# Altium footprint library 33HDR.PcbLib: 1 footprints
Each footprint in its own frame and in the unit in brackets; x right, y up, seen from the top. Pads: shape width x height; smd on the part's side, far side on the other; paste and mask are expansions set on the pad; w line width, h text height; cw(c..) or ccw(c..) is an arc to the next point about the centre after c.
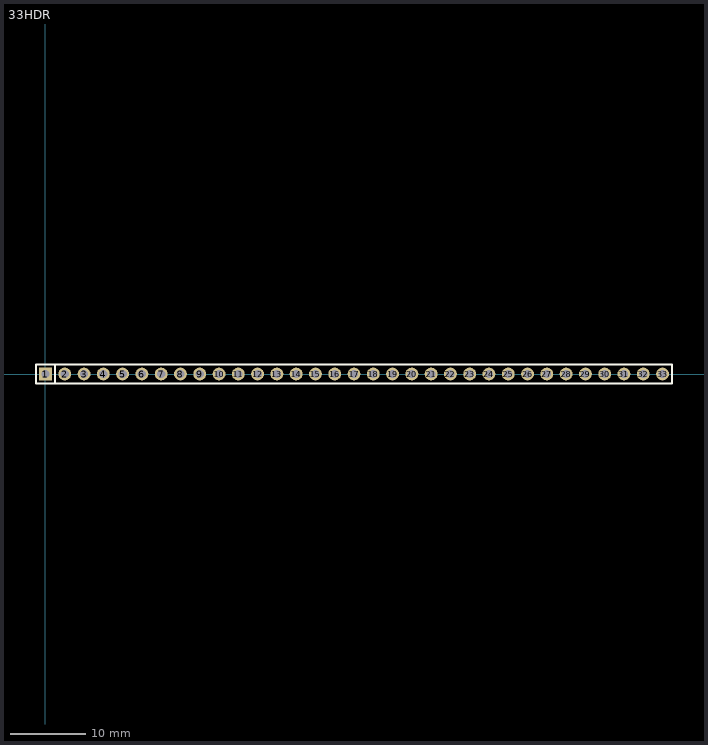
[diagram p0: the footprint, top view; thin cyan lines are the x and y axes]

## 33HDR [mm]
height 9
pads (33):
  rect 1.7x1.7 hole 1.1: 1(0,0)
  round 1.7 hole 1.1: 2(2.54,0) 3(5.08,0) 4(7.62,0) 5(10.16,0) 6(12.7,0) 7(15.24,0) 8(17.78,0) 9(20.32,0) 10(22.86,0) 11(25.4,0) 12(27.94,0) 13(30.48,0) 14(33.02,0) 15(35.56,0) 16(38.1,0) 17(40.64,0) 18(43.18,0) 19(45.72,0) 20(48.26,0) 21(50.8,0) 22(53.34,0) 23(55.88,0) 24(58.42,0) 25(60.96,0) 26(63.5,0) 27(66.04,0) 28(68.58,0) 29(71.12,0) 30(73.66,0) 31(76.2,0) 32(78.74,0) 33(81.28,0)
Top Overlay:
  lines w0.254: 1.27,-1.27 -1.27,-1.27 -1.27,1.27 1.27,1.27 ; 1.27,-1.27 3.81,-1.27 6.35,-1.27 8.89,-1.27 11.43,-1.27 13.97,-1.27 16.51,-1.27 19.05,-1.27 21.59,-1.27 24.13,-1.27 26.67,-1.27 29.21,-1.27 31.75,-1.27 34.29,-1.27 36.83,-1.27 39.37,-1.27 41.91,-1.27 44.45,-1.27 46.99,-1.27 49.53,-1.27 52.07,-1.27 54.61,-1.27 57.15,-1.27 59.69,-1.27 62.23,-1.27 64.77,-1.27 67.31,-1.27 69.85,-1.27 72.39,-1.27 74.93,-1.27 77.47,-1.27 80.01,-1.27 82.55,-1.27 82.55,1.27 80.01,1.27 77.47,1.27 74.93,1.27 72.39,1.27 69.85,1.27 67.31,1.27 64.77,1.27 62.23,1.27 59.69,1.27 57.15,1.27 54.61,1.27 52.07,1.27 49.53,1.27 46.99,1.27 44.45,1.27 41.91,1.27 39.37,1.27 36.83,1.27 34.29,1.27 31.75,1.27 29.21,1.27 26.67,1.27 24.13,1.27 21.59,1.27 19.05,1.27 16.51,1.27 13.97,1.27 11.43,1.27 8.89,1.27 6.35,1.27 3.81,1.27 1.27,1.27 ; 1.27,-1.27 1.27,1.27
3D body: height 8.54, standoff -3, extent -1.27,-1.25 1.27,1.25
3D body: height 8.54, standoff -3, extent 1.27,-1.25 3.81,1.25
3D body: height 8.54, standoff -3, extent 3.81,-1.25 6.35,1.25
3D body: height 8.54, standoff -3, extent 6.35,-1.25 8.89,1.25
3D body: height 8.54, standoff -3, extent 8.89,-1.25 11.43,1.25
3D body: height 8.54, standoff -3, extent 11.43,-1.25 13.97,1.25
3D body: height 8.54, standoff -3, extent 13.97,-1.25 16.51,1.25
3D body: height 8.54, standoff -3, extent 16.51,-1.25 19.05,1.25
3D body: height 8.54, standoff -3, extent 19.05,-1.25 21.59,1.25
3D body: height 8.54, standoff -3, extent 21.59,-1.25 24.13,1.25
3D body: height 8.54, standoff -3, extent 24.13,-1.25 26.67,1.25
3D body: height 8.54, standoff -3, extent 26.67,-1.25 29.21,1.25
3D body: height 8.54, standoff -3, extent 29.21,-1.25 31.75,1.25
3D body: height 8.54, standoff -3, extent 31.75,-1.25 34.29,1.25
3D body: height 8.54, standoff -3, extent 34.29,-1.25 36.83,1.25
3D body: height 8.54, standoff -3, extent 36.83,-1.25 39.37,1.25
3D body: height 8.54, standoff -3, extent 39.37,-1.25 41.91,1.25
3D body: height 8.54, standoff -3, extent 41.91,-1.25 44.45,1.25
3D body: height 8.54, standoff -3, extent 44.45,-1.25 46.99,1.25
3D body: height 8.54, standoff -3, extent 46.99,-1.25 49.53,1.25
3D body: height 8.54, standoff -3, extent 49.53,-1.25 52.07,1.25
3D body: height 8.54, standoff -3, extent 52.07,-1.25 54.61,1.25
3D body: height 8.54, standoff -3, extent 54.61,-1.25 57.15,1.25
3D body: height 8.54, standoff -3, extent 57.15,-1.25 59.69,1.25
3D body: height 8.54, standoff -3, extent 59.69,-1.25 62.23,1.25
3D body: height 8.54, standoff -3, extent 62.23,-1.25 64.77,1.25
3D body: height 8.54, standoff -3, extent 80.01,-1.25 82.55,1.25
3D body: height 8.54, standoff -3, extent 77.47,-1.25 80.01,1.25
3D body: height 8.54, standoff -3, extent 74.93,-1.25 77.47,1.25
3D body: height 8.54, standoff -3, extent 72.39,-1.25 74.93,1.25
3D body: height 8.54, standoff -3, extent 69.85,-1.25 72.39,1.25
3D body: height 8.54, standoff -3, extent 67.31,-1.25 69.85,1.25
3D body: height 8.54, standoff -3, extent 64.77,-1.25 67.31,1.25